# EAGLE library part IR2110PBF (library ir2110)
HIGH AND LOW SIDE DRIVER
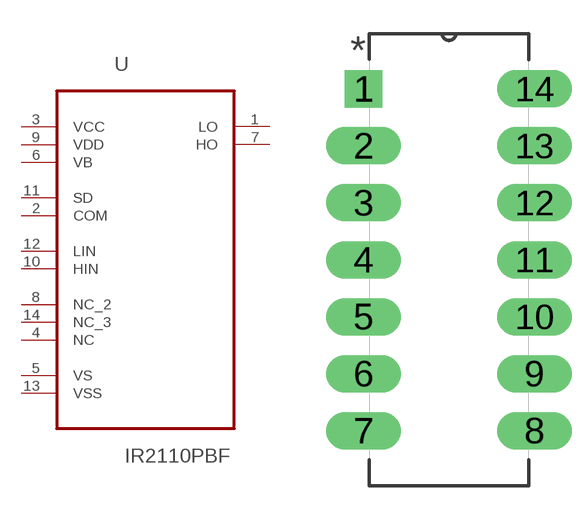
[diagram p0: symbol with the pads of DIP254P762X533-14; footprint DIP254P762X533-14]

Designator prefix U

## IR2110PBF (MPN: IR2110PBF; OC_FARNELL: 8638837; OC_NEWARK: 63J7859; PACKAGE: PDIP-14; SUPPLIER: INTERNATIONAL RECTIFIER)  [DIP254P762X533-14]
1  LO  out
2  COM  pas
3  VCC  pwr
4  NC  nc
5  VS  pwr
6  VB  pwr
7  HO  out
8  NC_2  nc
9  VDD  pwr
10  HIN  in
11  SD  in
12  LIN  in
13  VSS  pwr
14  NC_3  nc

## IR2110PBFDIP25-WITH-LONG-PADS  [DIP254P762X533-14]
Pads as for DIP254P762X533-14

## Footprint DIP254P762X533-14 (pad centres in mm)
drill 1.118 square: 1 -7.62,15.24
drill 1.118 long: 2 -7.62,12.7; 3 -7.62,10.16; 4 -7.62,7.62; 5 -7.62,5.08; 6 -7.62,2.54; 7 -7.62,0; 8 0,0; 9 0,2.54; 10 0,5.08; 11 0,7.62; 12 0,10.16; 13 0,12.7; 14 0,15.24